# Altium schematic symbol library Relay.SchLib: 200 symbols (part 1 of 2)
Pins are listed as number, name and electrical type; pins without a type are passive.

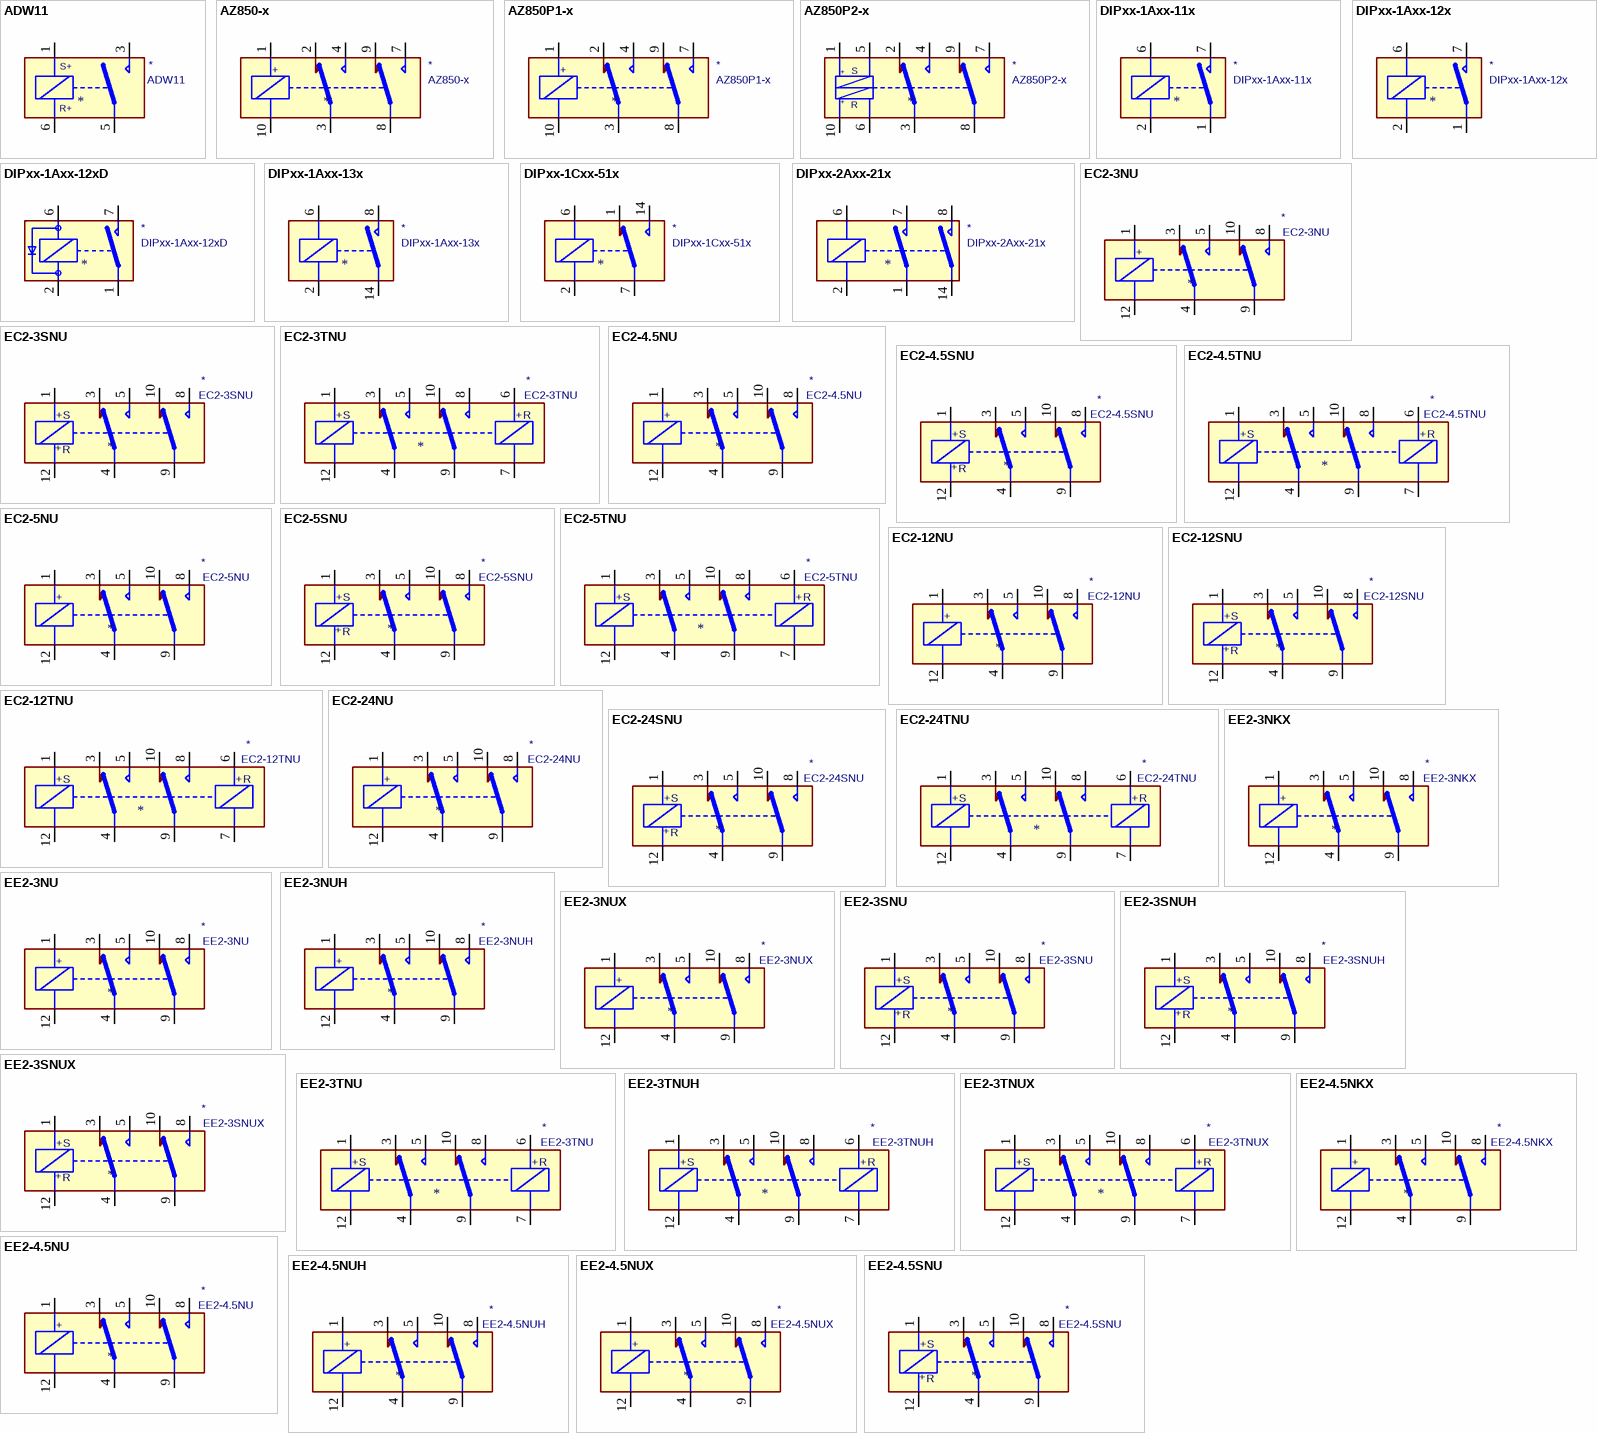
[diagram p0: symbols ADW11 to EE2-4.5SNU]

## ADW11
designator *  value ADW11
ki_keywords: SPST 1P1T; ki_description: Panasonic, 8A/16A, Small Polarized Latching Power Relays, Single coil, 1 Form A; ki_fp_filters: Relay*1P1T*NO*Panasonic*ADW11xxxxW*; Footprint: Relay_THT:Relay_1P1T_NO_10x24x18.8mm_Panasonic_ADW11xxxxW_THT; Supplier: https://www.panasonic-electric-works.com/pew/es/downloads/ds_dw_hl_en.pdf
footprint Relay_1P1T_NO_10x24x18.8mm_Panasonic_ADW11xxxxW_THT
pins: 1, 3, 5, 6
text: S+; R+

## AZ850-x
designator *  value AZ850-x
ki_keywords: Miniature Polarised Relay Dual Pole; ki_description: American Zettler, Microminiature Polarised Dual Pole Relay; ki_fp_filters: Relay*DPDT*FRT5*; Footprint: Relay_THT:Relay_DPDT_FRT5; Supplier: http://www.azettler.com/pdfs/az850.pdf
footprint Relay_DPDT_FRT5
pins: 1, 2, 3, 4, 7, 8, 9, 10
text: +

## AZ850P1-x
designator *  value AZ850P1-x
ki_keywords: Miniature Polarised Relay Dual Pole Bistable; ki_description: American Zettler, Microminiature Polarised Dual Pole Relay Bistable; ki_fp_filters: Relay*DPDT*FRT5*; Footprint: Relay_THT:Relay_DPDT_FRT5; Supplier: http://www.azettler.com/pdfs/az850.pdf
footprint Relay_DPDT_FRT5
pins: 1, 2, 3, 4, 7, 8, 9, 10
text: +

## AZ850P2-x
designator *  value AZ850P2-x
ki_keywords: Miniature Polarised Relay Dual Pole Bistable; ki_description: American Zettler, Microminiature Polarised Dual Pole Relay Bistable; ki_fp_filters: Relay*DPDT*FRT5*; Footprint: Relay_THT:Relay_DPDT_FRT5; Supplier: http://www.azettler.com/pdfs/az850.pdf
footprint Relay_DPDT_FRT5
pins: 1, 2, 3, 4, 5, 6, 7, 8, 9, 10
text: +; S; R

## DIPxx-1Axx-11x
designator *  value DIPxx-1Axx-11x
ki_keywords: Single Pole Reed Relay SPST; ki_description: Standex Meder DIP reed relay, SPST, Closing Contact; ki_fp_filters: Relay*StandexMeder*DIP*LowProfile*; Footprint: Relay_THT:Relay_StandexMeder_DIP_LowProfile; Supplier: https://standexelectronics.com/wp-content/uploads/datasheet_reed_relay_DIP.pdf
footprint Relay_StandexMeder_DIP_LowProfile
pins: 1, 2, 6, 7, 8 hidden, 14 hidden

## DIPxx-1Axx-12x
designator *  value DIPxx-1Axx-12x
ki_keywords: Single Pole Reed Relay SPST; ki_description: Standex Meder DIP reed relay, SPST, Closing Contact; ki_fp_filters: Relay*StandexMeder*DIP*LowProfile*; Footprint: Relay_THT:Relay_StandexMeder_DIP_LowProfile; Supplier: https://standexelectronics.com/wp-content/uploads/datasheet_reed_relay_DIP.pdf
footprint Relay_StandexMeder_DIP_LowProfile
pins: 1, 2, 6, 7, 8 hidden, 13 hidden, 14 hidden

## DIPxx-1Axx-12xD
designator *  value DIPxx-1Axx-12xD
ki_keywords: Single Pole Reed Relay SPST; ki_description: Standex Meder DIP reed relay, SPST, Closing Contact, including diode; ki_fp_filters: Relay*StandexMeder*DIP*LowProfile*; Footprint: Relay_THT:Relay_StandexMeder_DIP_LowProfile; Supplier: https://standexelectronics.com/wp-content/uploads/datasheet_reed_relay_DIP.pdf
footprint Relay_StandexMeder_DIP_LowProfile
pins: 1, 2, 6, 7, 8 hidden, 13 hidden, 14 hidden

## DIPxx-1Axx-13x
designator *  value DIPxx-1Axx-13x
ki_keywords: Single Pole Reed Relay SPST; ki_description: Standex Meder DIP reed relay, SPST, Closing Contact; ki_fp_filters: Relay*StandexMeder*DIP*LowProfile*; Footprint: Relay_THT:Relay_StandexMeder_DIP_LowProfile; Supplier: https://standexelectronics.com/wp-content/uploads/datasheet_reed_relay_DIP.pdf
footprint Relay_StandexMeder_DIP_LowProfile
pins: 2, 6, 8, 14

## DIPxx-1Cxx-51x
designator *  value DIPxx-1Cxx-51x
ki_keywords: Single Pole Reed Relay SPDT; ki_description: Standex Meder DIP reed relay, SPDT; ki_fp_filters: Relay*StandexMeder*DIP*LowProfile*; Footprint: Relay_THT:Relay_StandexMeder_DIP_LowProfile; Supplier: https://standexelectronics.com/wp-content/uploads/datasheet_reed_relay_DIP.pdf
footprint Relay_StandexMeder_DIP_LowProfile
pins: 1, 2, 6, 7, 8 hidden, 14

## DIPxx-2Axx-21x
designator *  value DIPxx-2Axx-21x
ki_keywords: Single Pole Reed Relay DPST; ki_description: Standex Meder DIP reed relay, DPST, Closing Contacts; ki_fp_filters: Relay*StandexMeder*DIP*LowProfile*; Footprint: Relay_THT:Relay_StandexMeder_DIP_LowProfile; Supplier: https://standexelectronics.com/wp-content/uploads/datasheet_reed_relay_DIP.pdf
footprint Relay_StandexMeder_DIP_LowProfile
pins: 1, 2, 6, 7, 8, 14

## EC2-3NU
designator *  value EC2-3NU
ki_keywords: signal relay double pole double throw DPDT DC coil non latching; ki_description: General purpose signal relay, Kemet EC2 Series, DPDT (2 Form C), non-latching, through hole, 60W/125VA, 220VDC/250VAC, 2A, 3V DC coil; ki_fp_filters: Relay*THT*Kemet*EC2*; Footprint: Relay_THT:Relay_DPDT_Kemet_EC2; Supplier: https://content.kemet.com/datasheets/KEM_R7002_EC2_EE2.pdf
footprint Relay_DPDT_Kemet_EC2
pins: 1, 3, 4, 5, 8, 9, 10, 12
text: +

## EC2-3SNU
designator *  value EC2-3SNU
ki_keywords: signal relay double pole double throw DPDT DC coil single coil latching; ki_description: General purpose signal relay, Kemet EC2 Series, DPDT (2 Form C), single coil latching, through hole, 60W/125VA, 220VDC/250VAC, 2A, 3V DC coil; ki_fp_filters: Relay*THT*Kemet*EC2*; Footprint: Relay_THT:Relay_DPDT_Kemet_EC2; Supplier: https://content.kemet.com/datasheets/KEM_R7002_EC2_EE2.pdf
footprint Relay_DPDT_Kemet_EC2
pins: 1, 3, 4, 5, 8, 9, 10, 12
text: +; S; R

## EC2-3TNU
designator *  value EC2-3TNU
ki_keywords: signal relay double pole double throw DPDT DC coil double dual coil latching; ki_description: General purpose signal relay, Kemet EC2 Series, DPDT (2 Form C), double coil latching, through hole, 60W/125VA, 220VDC/250VAC, 2A, 3V DC coil; ki_fp_filters: Relay*THT*Kemet*EC2*DoubleCoil*; Footprint: Relay_THT:Relay_DPDT_Kemet_EC2_DoubleCoil; Supplier: https://content.kemet.com/datasheets/KEM_R7002_EC2_EE2.pdf
footprint Relay_DPDT_Kemet_EC2_DoubleCoil
pins: 1, 3, 4, 5, 6, 7, 8, 9, 10, 12
text: +; S; R

## EC2-4.5NU
designator *  value EC2-4.5NU
ki_keywords: signal relay double pole double throw DPDT DC coil non latching; ki_description: General purpose signal relay, Kemet EC2 Series, DPDT (2 Form C), non-latching, through hole, 60W/125VA, 220VDC/250VAC, 2A, 4.5V DC coil; ki_fp_filters: Relay*THT*Kemet*EC2*; Footprint: Relay_THT:Relay_DPDT_Kemet_EC2; Supplier: https://content.kemet.com/datasheets/KEM_R7002_EC2_EE2.pdf
footprint Relay_DPDT_Kemet_EC2
pins: 1, 3, 4, 5, 8, 9, 10, 12
text: +

## EC2-4.5SNU
designator *  value EC2-4.5SNU
ki_keywords: signal relay double pole double throw DPDT DC coil single coil latching; ki_description: General purpose signal relay, Kemet EC2 Series, DPDT (2 Form C), single coil latching, through hole, 60W/125VA, 220VDC/250VAC, 2A, 4.5V DC coil; ki_fp_filters: Relay*THT*Kemet*EC2*; Footprint: Relay_THT:Relay_DPDT_Kemet_EC2; Supplier: https://content.kemet.com/datasheets/KEM_R7002_EC2_EE2.pdf
footprint Relay_DPDT_Kemet_EC2
pins: 1, 3, 4, 5, 8, 9, 10, 12
text: +; S; R

## EC2-4.5TNU
designator *  value EC2-4.5TNU
ki_keywords: signal relay double pole double throw DPDT DC coil double dual coil latching; ki_description: General purpose signal relay, Kemet EC2 Series, DPDT (2 Form C), double coil latching, through hole, 60W/125VA, 220VDC/250VAC, 2A, 4.5V DC coil; ki_fp_filters: Relay*THT*Kemet*EC2*DoubleCoil*; Footprint: Relay_THT:Relay_DPDT_Kemet_EC2_DoubleCoil; Supplier: https://content.kemet.com/datasheets/KEM_R7002_EC2_EE2.pdf
footprint Relay_DPDT_Kemet_EC2_DoubleCoil
pins: 1, 3, 4, 5, 6, 7, 8, 9, 10, 12
text: +; S; R

## EC2-5NU
designator *  value EC2-5NU
ki_keywords: signal relay double pole double throw DPDT DC coil non latching; ki_description: General purpose signal relay, Kemet EC2 Series, DPDT (2 Form C), non-latching, through hole, 60W/125VA, 220VDC/250VAC, 2A, 5V DC coil; ki_fp_filters: Relay*THT*Kemet*EC2*; Footprint: Relay_THT:Relay_DPDT_Kemet_EC2; Supplier: https://content.kemet.com/datasheets/KEM_R7002_EC2_EE2.pdf
footprint Relay_DPDT_Kemet_EC2
pins: 1, 3, 4, 5, 8, 9, 10, 12
text: +

## EC2-5SNU
designator *  value EC2-5SNU
ki_keywords: signal relay double pole double throw DPDT DC coil single coil latching; ki_description: General purpose signal relay, Kemet EC2 Series, DPDT (2 Form C), single coil latching, through hole, 60W/125VA, 220VDC/250VAC, 2A, 5V DC coil; ki_fp_filters: Relay*THT*Kemet*EC2*; Footprint: Relay_THT:Relay_DPDT_Kemet_EC2; Supplier: https://content.kemet.com/datasheets/KEM_R7002_EC2_EE2.pdf
footprint Relay_DPDT_Kemet_EC2
pins: 1, 3, 4, 5, 8, 9, 10, 12
text: +; S; R

## EC2-5TNU
designator *  value EC2-5TNU
ki_keywords: signal relay double pole double throw DPDT DC coil double dual coil latching; ki_description: General purpose signal relay, Kemet EC2 Series, DPDT (2 Form C), double coil latching, through hole, 60W/125VA, 220VDC/250VAC, 2A, 5V DC coil; ki_fp_filters: Relay*THT*Kemet*EC2*DoubleCoil*; Footprint: Relay_THT:Relay_DPDT_Kemet_EC2_DoubleCoil; Supplier: https://content.kemet.com/datasheets/KEM_R7002_EC2_EE2.pdf
footprint Relay_DPDT_Kemet_EC2_DoubleCoil
pins: 1, 3, 4, 5, 6, 7, 8, 9, 10, 12
text: +; S; R

## EC2-12NU
designator *  value EC2-12NU
ki_keywords: signal relay double pole double throw DPDT DC coil non latching; ki_description: General purpose signal relay, Kemet EC2 Series, DPDT (2 Form C), non-latching, through hole, 60W/125VA, 220VDC/250VAC, 2A, 12V DC coil; ki_fp_filters: Relay*THT*Kemet*EC2*; Footprint: Relay_THT:Relay_DPDT_Kemet_EC2; Supplier: https://content.kemet.com/datasheets/KEM_R7002_EC2_EE2.pdf
footprint Relay_DPDT_Kemet_EC2
pins: 1, 3, 4, 5, 8, 9, 10, 12
text: +

## EC2-12SNU
designator *  value EC2-12SNU
ki_keywords: signal relay double pole double throw DPDT DC coil single coil latching; ki_description: General purpose signal relay, Kemet EC2 Series, DPDT (2 Form C), single coil latching, through hole, 60W/125VA, 220VDC/250VAC, 2A, 12V DC coil; ki_fp_filters: Relay*THT*Kemet*EC2*; Footprint: Relay_THT:Relay_DPDT_Kemet_EC2; Supplier: https://content.kemet.com/datasheets/KEM_R7002_EC2_EE2.pdf
footprint Relay_DPDT_Kemet_EC2
pins: 1, 3, 4, 5, 8, 9, 10, 12
text: +; S; R

## EC2-12TNU
designator *  value EC2-12TNU
ki_keywords: signal relay double pole double throw DPDT DC coil double dual coil latching; ki_description: General purpose signal relay, Kemet EC2 Series, DPDT (2 Form C), double coil latching, through hole, 60W/125VA, 220VDC/250VAC, 2A, 12V DC coil; ki_fp_filters: Relay*THT*Kemet*EC2*DoubleCoil*; Footprint: Relay_THT:Relay_DPDT_Kemet_EC2_DoubleCoil; Supplier: https://content.kemet.com/datasheets/KEM_R7002_EC2_EE2.pdf
footprint Relay_DPDT_Kemet_EC2_DoubleCoil
pins: 1, 3, 4, 5, 6, 7, 8, 9, 10, 12
text: +; S; R

## EC2-24NU
designator *  value EC2-24NU
ki_keywords: signal relay double pole double throw DPDT DC coil non latching; ki_description: General purpose signal relay, Kemet EC2 Series, DPDT (2 Form C), non-latching, through hole, 60W/125VA, 220VDC/250VAC, 2A, 24V DC coil; ki_fp_filters: Relay*THT*Kemet*EC2*; Footprint: Relay_THT:Relay_DPDT_Kemet_EC2; Supplier: https://content.kemet.com/datasheets/KEM_R7002_EC2_EE2.pdf
footprint Relay_DPDT_Kemet_EC2
pins: 1, 3, 4, 5, 8, 9, 10, 12
text: +

## EC2-24SNU
designator *  value EC2-24SNU
ki_keywords: signal relay double pole double throw DPDT DC coil single coil latching; ki_description: General purpose signal relay, Kemet EC2 Series, DPDT (2 Form C), single coil latching, through hole, 60W/125VA, 220VDC/250VAC, 2A, 24V DC coil; ki_fp_filters: Relay*THT*Kemet*EC2*; Footprint: Relay_THT:Relay_DPDT_Kemet_EC2; Supplier: https://content.kemet.com/datasheets/KEM_R7002_EC2_EE2.pdf
footprint Relay_DPDT_Kemet_EC2
pins: 1, 3, 4, 5, 8, 9, 10, 12
text: +; S; R

## EC2-24TNU
designator *  value EC2-24TNU
ki_keywords: signal relay double pole double throw DPDT DC coil double dual coil latching; ki_description: General purpose signal relay, Kemet EC2 Series, DPDT (2 Form C), double coil latching, through hole, 60W/125VA, 220VDC/250VAC, 2A, 24V DC coil; ki_fp_filters: Relay*THT*Kemet*EC2*DoubleCoil*; Footprint: Relay_THT:Relay_DPDT_Kemet_EC2_DoubleCoil; Supplier: https://content.kemet.com/datasheets/KEM_R7002_EC2_EE2.pdf
footprint Relay_DPDT_Kemet_EC2_DoubleCoil
pins: 1, 3, 4, 5, 6, 7, 8, 9, 10, 12
text: +; S; R

## EE2-3NKX
designator *  value EE2-3NKX
ki_keywords: signal relay double pole double throw DPDT DC coil non latching; ki_description: General purpose signal relay, Kemet EE2 Series, DPDT (2 Form C), non-latching, high breakdown voltage, high solder joint reliability SMD, 60W/125VA, 220VDC/250VAC, 2A, 3V DC coil; ki_fp_filters: Relay*DPDT*Kemet*EE2*NKX*; Footprint: Relay_SMD:Relay_DPDT_Kemet_EE2_NUX_NKX; Supplier: https://content.kemet.com/datasheets/KEM_R7002_EC2_EE2.pdf
footprint Relay_DPDT_Kemet_EE2_NUX_NKX
pins: 1, 3, 4, 5, 8, 9, 10, 12
text: +

## EE2-3NU
designator *  value EE2-3NU
ki_keywords: signal relay double pole double throw DPDT DC coil non latching; ki_description: General purpose signal relay, Kemet EE2 Series, DPDT (2 Form C), non-latching, SMD, 60W/125VA, 220VDC/250VAC, 2A, 3V DC coil; ki_fp_filters: Relay*DPDT*Kemet*EE2*NU*; Footprint: Relay_SMD:Relay_DPDT_Kemet_EE2_NU; Supplier: https://content.kemet.com/datasheets/KEM_R7002_EC2_EE2.pdf
footprint Relay_DPDT_Kemet_EE2_NU
pins: 1, 3, 4, 5, 8, 9, 10, 12
text: +

## EE2-3NUH
designator *  value EE2-3NUH
ki_keywords: signal relay double pole double throw DPDT DC coil non latching; ki_description: General purpose signal relay, Kemet EE2 Series, DPDT (2 Form C), non-latching, small footprint SMD, 60W/125VA, 220VDC/250VAC, 2A, 3V DC coil; ki_fp_filters: Relay*DPDT*Kemet*EE2*NUH*; Footprint: Relay_SMD:Relay_DPDT_Kemet_EE2_NUH; Supplier: https://content.kemet.com/datasheets/KEM_R7002_EC2_EE2.pdf
footprint Relay_DPDT_Kemet_EE2_NUH
pins: 1, 3, 4, 5, 8, 9, 10, 12
text: +

## EE2-3NUX
designator *  value EE2-3NUX
ki_keywords: signal relay double pole double throw DPDT DC coil non latching; ki_description: General purpose signal relay, Kemet EE2 Series, DPDT (2 Form C), non-latching, high solder joint reliability SMD, 60W/125VA, 220VDC/250VAC, 2A, 3V DC coil; ki_fp_filters: Relay*DPDT*Kemet*EE2*NUX*; Footprint: Relay_SMD:Relay_DPDT_Kemet_EE2_NUX_NKX; Supplier: https://content.kemet.com/datasheets/KEM_R7002_EC2_EE2.pdf
footprint Relay_DPDT_Kemet_EE2_NUX_NKX
pins: 1, 3, 4, 5, 8, 9, 10, 12
text: +

## EE2-3SNU
designator *  value EE2-3SNU
ki_keywords: signal relay double pole double throw DPDT DC coil single coil latching; ki_description: General purpose signal relay, Kemet EE2 Series, DPDT (2 Form C), single coil latching, SMD, 60W/125VA, 220VDC/250VAC, 2A, 3V DC coil; ki_fp_filters: Relay*DPDT*Kemet*EE2*NU*; Footprint: Relay_SMD:Relay_DPDT_Kemet_EE2_NU; Supplier: https://content.kemet.com/datasheets/KEM_R7002_EC2_EE2.pdf
footprint Relay_DPDT_Kemet_EE2_NU
pins: 1, 3, 4, 5, 8, 9, 10, 12
text: +; S; R

## EE2-3SNUH
designator *  value EE2-3SNUH
ki_keywords: signal relay double pole double throw DPDT DC coil single coil latching; ki_description: General purpose signal relay, Kemet EE2 Series, DPDT (2 Form C), single coil latching, small footprint SMD, 60W/125VA, 220VDC/250VAC, 2A, 3V DC coil; ki_fp_filters: Relay*DPDT*Kemet*EE2*NUH*; Footprint: Relay_SMD:Relay_DPDT_Kemet_EE2_NUH; Supplier: https://content.kemet.com/datasheets/KEM_R7002_EC2_EE2.pdf
footprint Relay_DPDT_Kemet_EE2_NUH
pins: 1, 3, 4, 5, 8, 9, 10, 12
text: +; S; R

## EE2-3SNUX
designator *  value EE2-3SNUX
ki_keywords: signal relay double pole double throw DPDT DC coil single coil latching; ki_description: General purpose signal relay, Kemet EE2 Series, DPDT (2 Form C), single coil latching, high solder joint reliability SMD, 60W/125VA, 220VDC/250VAC, 2A, 3V DC coil; ki_fp_filters: Relay*DPDT*Kemet*EE2*NUX*; Footprint: Relay_SMD:Relay_DPDT_Kemet_EE2_NUX_NKX; Supplier: https://content.kemet.com/datasheets/KEM_R7002_EC2_EE2.pdf
footprint Relay_DPDT_Kemet_EE2_NUX_NKX
pins: 1, 3, 4, 5, 8, 9, 10, 12
text: +; S; R

## EE2-3TNU
designator *  value EE2-3TNU
ki_keywords: signal relay double pole double throw DPDT DC coil double dual coil latching; ki_description: General purpose signal relay, Kemet EE2 Series, DPDT (2 Form C), double coil latching, SMD, 60W/125VA, 220VDC/250VAC, 2A, 3V DC coil; ki_fp_filters: Relay*DPDT*Kemet*EE2*NU*DoubleCoil*; Footprint: Relay_SMD:Relay_DPDT_Kemet_EE2_NU_DoubleCoil; Supplier: https://content.kemet.com/datasheets/KEM_R7002_EC2_EE2.pdf
footprint Relay_DPDT_Kemet_EE2_NU_DoubleCoil
pins: 1, 3, 4, 5, 6, 7, 8, 9, 10, 12
text: +; S; R

## EE2-3TNUH
designator *  value EE2-3TNUH
ki_keywords: signal relay double pole double throw DPDT DC coil double dual coil latching; ki_description: General purpose signal relay, Kemet EE2 Series, DPDT (2 Form C), double coil latching, small footprint SMD, 60W/125VA, 220VDC/250VAC, 2A, 3V DC coil; ki_fp_filters: Relay*DPDT*Kemet*EE2*NUH*DoubleCoil*; Footprint: Relay_SMD:Relay_DPDT_Kemet_EE2_NUH_DoubleCoil; Supplier: https://content.kemet.com/datasheets/KEM_R7002_EC2_EE2.pdf
footprint Relay_DPDT_Kemet_EE2_NUH_DoubleCoil
pins: 1, 3, 4, 5, 6, 7, 8, 9, 10, 12
text: +; S; R

## EE2-3TNUX
designator *  value EE2-3TNUX
ki_keywords: signal relay double pole double throw DPDT DC coil double dual coil latching; ki_description: General purpose signal relay, Kemet EE2 Series, DPDT (2 Form C), double coil latching, high solder joint reliability SMD, 60W/125VA, 220VDC/250VAC, 2A, 3V DC coil; ki_fp_filters: Relay*DPDT*Kemet*EE2*NUX*DoubleCoil*; Footprint: Relay_SMD:Relay_DPDT_Kemet_EE2_NUX_DoubleCoil; Supplier: https://content.kemet.com/datasheets/KEM_R7002_EC2_EE2.pdf
footprint Relay_DPDT_Kemet_EE2_NUX_DoubleCoil
pins: 1, 3, 4, 5, 6, 7, 8, 9, 10, 12
text: +; S; R

## EE2-4.5NKX
designator *  value EE2-4.5NKX
ki_keywords: signal relay double pole double throw DPDT DC coil non latching; ki_description: General purpose signal relay, Kemet EE2 Series, DPDT (2 Form C), non-latching, high breakdown voltage, high solder joint reliability SMD, 60W/125VA, 220VDC/250VAC, 2A, 4.5V DC coil; ki_fp_filters: Relay*DPDT*Kemet*EE2*NKX*; Footprint: Relay_SMD:Relay_DPDT_Kemet_EE2_NUX_NKX; Supplier: https://content.kemet.com/datasheets/KEM_R7002_EC2_EE2.pdf
footprint Relay_DPDT_Kemet_EE2_NUX_NKX
pins: 1, 3, 4, 5, 8, 9, 10, 12
text: +

## EE2-4.5NU
designator *  value EE2-4.5NU
ki_keywords: signal relay double pole double throw DPDT DC coil non latching; ki_description: General purpose signal relay, Kemet EE2 Series, DPDT (2 Form C), non-latching, SMD, 60W/125VA, 220VDC/250VAC, 2A, 4.5V DC coil; ki_fp_filters: Relay*DPDT*Kemet*EE2*NU*; Footprint: Relay_SMD:Relay_DPDT_Kemet_EE2_NU; Supplier: https://content.kemet.com/datasheets/KEM_R7002_EC2_EE2.pdf
footprint Relay_DPDT_Kemet_EE2_NU
pins: 1, 3, 4, 5, 8, 9, 10, 12
text: +

## EE2-4.5NUH
designator *  value EE2-4.5NUH
ki_keywords: signal relay double pole double throw DPDT DC coil non latching; ki_description: General purpose signal relay, Kemet EE2 Series, DPDT (2 Form C), non-latching, small footprint SMD, 60W/125VA, 220VDC/250VAC, 2A, 4.5V DC coil; ki_fp_filters: Relay*DPDT*Kemet*EE2*NUH*; Footprint: Relay_SMD:Relay_DPDT_Kemet_EE2_NUH; Supplier: https://content.kemet.com/datasheets/KEM_R7002_EC2_EE2.pdf
footprint Relay_DPDT_Kemet_EE2_NUH
pins: 1, 3, 4, 5, 8, 9, 10, 12
text: +

## EE2-4.5NUX
designator *  value EE2-4.5NUX
ki_keywords: signal relay double pole double throw DPDT DC coil non latching; ki_description: General purpose signal relay, Kemet EE2 Series, DPDT (2 Form C), non-latching, high solder joint reliability SMD, 60W/125VA, 220VDC/250VAC, 2A, 4.5V DC coil; ki_fp_filters: Relay*DPDT*Kemet*EE2*NUX*; Footprint: Relay_SMD:Relay_DPDT_Kemet_EE2_NUX_NKX; Supplier: https://content.kemet.com/datasheets/KEM_R7002_EC2_EE2.pdf
footprint Relay_DPDT_Kemet_EE2_NUX_NKX
pins: 1, 3, 4, 5, 8, 9, 10, 12
text: +

## EE2-4.5SNU
designator *  value EE2-4.5SNU
ki_keywords: signal relay double pole double throw DPDT DC coil single coil latching; ki_description: General purpose signal relay, Kemet EE2 Series, DPDT (2 Form C), single coil latching, SMD, 60W/125VA, 220VDC/250VAC, 2A, 4.5V DC coil; ki_fp_filters: Relay*DPDT*Kemet*EE2*NU*; Footprint: Relay_SMD:Relay_DPDT_Kemet_EE2_NU; Supplier: https://content.kemet.com/datasheets/KEM_R7002_EC2_EE2.pdf
footprint Relay_DPDT_Kemet_EE2_NU
pins: 1, 3, 4, 5, 8, 9, 10, 12
text: +; S; R

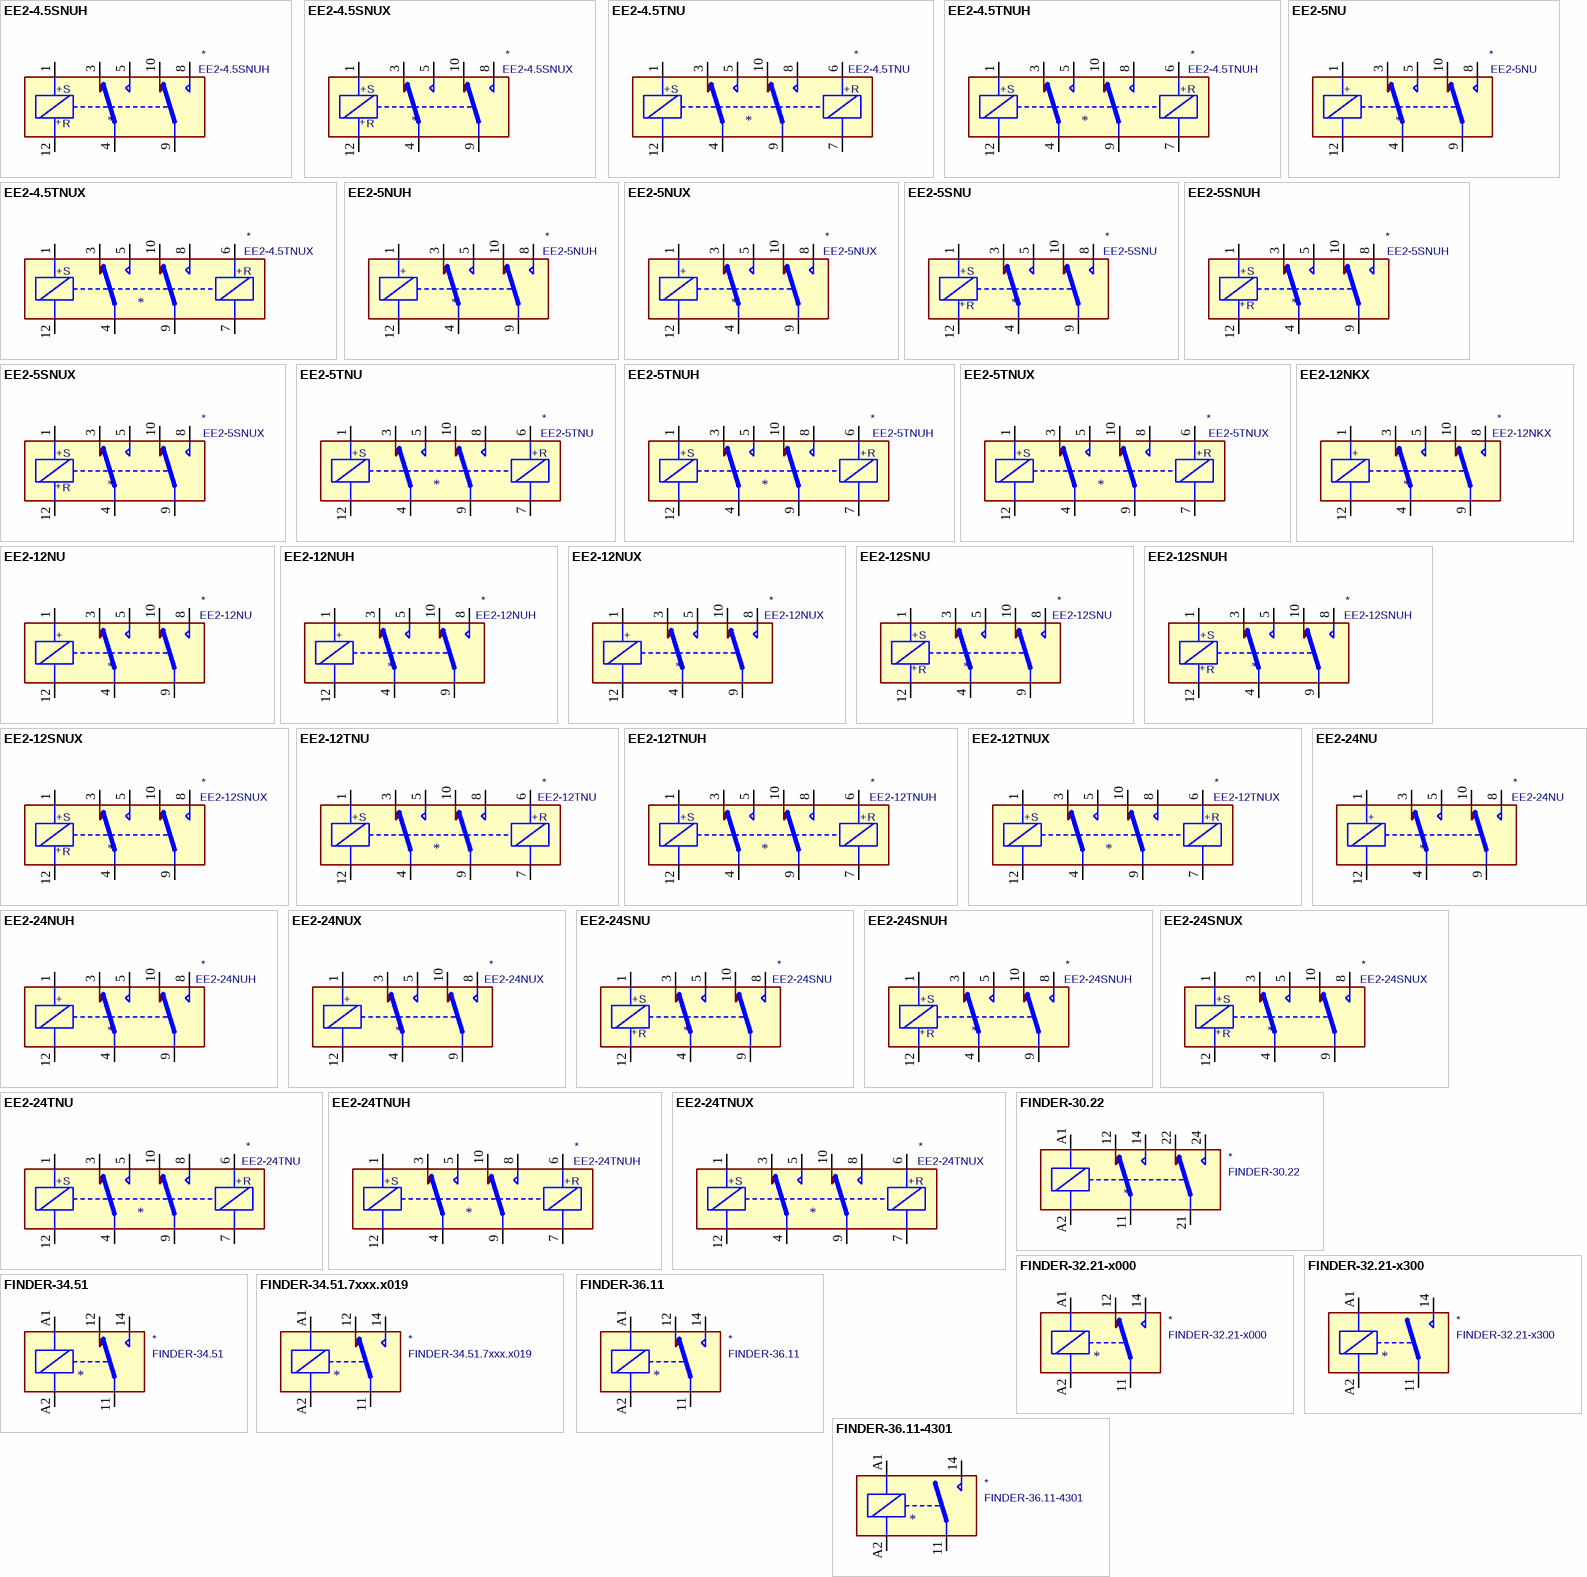
[diagram p1: symbols EE2-4.5SNUH to FINDER-36.11-4301]

## EE2-4.5SNUH
designator *  value EE2-4.5SNUH
ki_keywords: signal relay double pole double throw DPDT DC coil single coil latching; ki_description: General purpose signal relay, Kemet EE2 Series, DPDT (2 Form C), single coil latching, small footprint SMD, 60W/125VA, 220VDC/250VAC, 2A, 4.5V DC coil; ki_fp_filters: Relay*DPDT*Kemet*EE2*NUH*; Footprint: Relay_SMD:Relay_DPDT_Kemet_EE2_NUH; Supplier: https://content.kemet.com/datasheets/KEM_R7002_EC2_EE2.pdf
footprint Relay_DPDT_Kemet_EE2_NUH
pins: 1, 3, 4, 5, 8, 9, 10, 12
text: +; S; R

## EE2-4.5SNUX
designator *  value EE2-4.5SNUX
ki_keywords: signal relay double pole double throw DPDT DC coil single coil latching; ki_description: General purpose signal relay, Kemet EE2 Series, DPDT (2 Form C), single coil latching, high solder joint reliability SMD, 60W/125VA, 220VDC/250VAC, 2A, 4.5V DC coil; ki_fp_filters: Relay*DPDT*Kemet*EE2*NUX*; Footprint: Relay_SMD:Relay_DPDT_Kemet_EE2_NUX_NKX; Supplier: https://content.kemet.com/datasheets/KEM_R7002_EC2_EE2.pdf
footprint Relay_DPDT_Kemet_EE2_NUX_NKX
pins: 1, 3, 4, 5, 8, 9, 10, 12
text: +; S; R

## EE2-4.5TNU
designator *  value EE2-4.5TNU
ki_keywords: signal relay double pole double throw DPDT DC coil double dual coil latching; ki_description: General purpose signal relay, Kemet EE2 Series, DPDT (2 Form C), double coil latching, SMD, 60W/125VA, 220VDC/250VAC, 2A, 4.5V DC coil; ki_fp_filters: Relay*DPDT*Kemet*EE2*NU*DoubleCoil*; Footprint: Relay_SMD:Relay_DPDT_Kemet_EE2_NU_DoubleCoil; Supplier: https://content.kemet.com/datasheets/KEM_R7002_EC2_EE2.pdf
footprint Relay_DPDT_Kemet_EE2_NU_DoubleCoil
pins: 1, 3, 4, 5, 6, 7, 8, 9, 10, 12
text: +; S; R

## EE2-4.5TNUH
designator *  value EE2-4.5TNUH
ki_keywords: signal relay double pole double throw DPDT DC coil double dual coil latching; ki_description: General purpose signal relay, Kemet EE2 Series, DPDT (2 Form C), double coil latching, small footprint SMD, 60W/125VA, 220VDC/250VAC, 2A, 4.5V DC coil; ki_fp_filters: Relay*DPDT*Kemet*EE2*NUH*DoubleCoil*; Footprint: Relay_SMD:Relay_DPDT_Kemet_EE2_NUH_DoubleCoil; Supplier: https://content.kemet.com/datasheets/KEM_R7002_EC2_EE2.pdf
footprint Relay_DPDT_Kemet_EE2_NUH_DoubleCoil
pins: 1, 3, 4, 5, 6, 7, 8, 9, 10, 12
text: +; S; R

## EE2-4.5TNUX
designator *  value EE2-4.5TNUX
ki_keywords: signal relay double pole double throw DPDT DC coil double dual coil latching; ki_description: General purpose signal relay, Kemet EE2 Series, DPDT (2 Form C), double coil latching, high solder joint reliability SMD, 60W/125VA, 220VDC/250VAC, 2A, 4.5V DC coil; ki_fp_filters: Relay*DPDT*Kemet*EE2*NUX*DoubleCoil*; Footprint: Relay_SMD:Relay_DPDT_Kemet_EE2_NUX_DoubleCoil; Supplier: https://content.kemet.com/datasheets/KEM_R7002_EC2_EE2.pdf
footprint Relay_DPDT_Kemet_EE2_NUX_DoubleCoil
pins: 1, 3, 4, 5, 6, 7, 8, 9, 10, 12
text: +; S; R

## EE2-5NU
designator *  value EE2-5NU
ki_keywords: signal relay double pole double throw DPDT DC coil non latching; ki_description: General purpose signal relay, Kemet EE2 Series, DPDT (2 Form C), non-latching, SMD, 60W/125VA, 220VDC/250VAC, 2A, 5V DC coil; ki_fp_filters: Relay*DPDT*Kemet*EE2*NU*; Footprint: Relay_SMD:Relay_DPDT_Kemet_EE2_NU; Supplier: https://content.kemet.com/datasheets/KEM_R7002_EC2_EE2.pdf
footprint Relay_DPDT_Kemet_EE2_NU
pins: 1, 3, 4, 5, 8, 9, 10, 12
text: +

## EE2-5NUH
designator *  value EE2-5NUH
ki_keywords: signal relay double pole double throw DPDT DC coil non latching; ki_description: General purpose signal relay, Kemet EE2 Series, DPDT (2 Form C), non-latching, small footprint SMD, 60W/125VA, 220VDC/250VAC, 2A, 5V DC coil; ki_fp_filters: Relay*DPDT*Kemet*EE2*NUH*; Footprint: Relay_SMD:Relay_DPDT_Kemet_EE2_NUH; Supplier: https://content.kemet.com/datasheets/KEM_R7002_EC2_EE2.pdf
footprint Relay_DPDT_Kemet_EE2_NUH
pins: 1, 3, 4, 5, 8, 9, 10, 12
text: +

## EE2-5NUX
designator *  value EE2-5NUX
ki_keywords: signal relay double pole double throw DPDT DC coil non latching; ki_description: General purpose signal relay, Kemet EE2 Series, DPDT (2 Form C), non-latching, high solder joint reliability SMD, 60W/125VA, 220VDC/250VAC, 2A, 5V DC coil; ki_fp_filters: Relay*DPDT*Kemet*EE2*NUX*; Footprint: Relay_SMD:Relay_DPDT_Kemet_EE2_NUX_NKX; Supplier: https://content.kemet.com/datasheets/KEM_R7002_EC2_EE2.pdf
footprint Relay_DPDT_Kemet_EE2_NUX_NKX
pins: 1, 3, 4, 5, 8, 9, 10, 12
text: +

## EE2-5SNU
designator *  value EE2-5SNU
ki_keywords: signal relay double pole double throw DPDT DC coil single coil latching; ki_description: General purpose signal relay, Kemet EE2 Series, DPDT (2 Form C), single coil latching, SMD, 60W/125VA, 220VDC/250VAC, 2A, 5V DC coil; ki_fp_filters: Relay*DPDT*Kemet*EE2*NU*; Footprint: Relay_SMD:Relay_DPDT_Kemet_EE2_NU; Supplier: https://content.kemet.com/datasheets/KEM_R7002_EC2_EE2.pdf
footprint Relay_DPDT_Kemet_EE2_NU
pins: 1, 3, 4, 5, 8, 9, 10, 12
text: +; S; R

## EE2-5SNUH
designator *  value EE2-5SNUH
ki_keywords: signal relay double pole double throw DPDT DC coil single coil latching; ki_description: General purpose signal relay, Kemet EE2 Series, DPDT (2 Form C), single coil latching, small footprint SMD, 60W/125VA, 220VDC/250VAC, 2A, 5V DC coil; ki_fp_filters: Relay*DPDT*Kemet*EE2*NUH*; Footprint: Relay_SMD:Relay_DPDT_Kemet_EE2_NUH; Supplier: https://content.kemet.com/datasheets/KEM_R7002_EC2_EE2.pdf
footprint Relay_DPDT_Kemet_EE2_NUH
pins: 1, 3, 4, 5, 8, 9, 10, 12
text: +; S; R

## EE2-5SNUX
designator *  value EE2-5SNUX
ki_keywords: signal relay double pole double throw DPDT DC coil single coil latching; ki_description: General purpose signal relay, Kemet EE2 Series, DPDT (2 Form C), single coil latching, high solder joint reliability SMD, 60W/125VA, 220VDC/250VAC, 2A, 5V DC coil; ki_fp_filters: Relay*DPDT*Kemet*EE2*NUX*; Footprint: Relay_SMD:Relay_DPDT_Kemet_EE2_NUX_NKX; Supplier: https://content.kemet.com/datasheets/KEM_R7002_EC2_EE2.pdf
footprint Relay_DPDT_Kemet_EE2_NUX_NKX
pins: 1, 3, 4, 5, 8, 9, 10, 12
text: +; S; R

## EE2-5TNU
designator *  value EE2-5TNU
ki_keywords: signal relay double pole double throw DPDT DC coil double dual coil latching; ki_description: General purpose signal relay, Kemet EE2 Series, DPDT (2 Form C), double coil latching, SMD, 60W/125VA, 220VDC/250VAC, 2A, 5V DC coil; ki_fp_filters: Relay*DPDT*Kemet*EE2*NU*DoubleCoil*; Footprint: Relay_SMD:Relay_DPDT_Kemet_EE2_NU_DoubleCoil; Supplier: https://content.kemet.com/datasheets/KEM_R7002_EC2_EE2.pdf
footprint Relay_DPDT_Kemet_EE2_NU_DoubleCoil
pins: 1, 3, 4, 5, 6, 7, 8, 9, 10, 12
text: +; S; R

## EE2-5TNUH
designator *  value EE2-5TNUH
ki_keywords: signal relay double pole double throw DPDT DC coil double dual coil latching; ki_description: General purpose signal relay, Kemet EE2 Series, DPDT (2 Form C), double coil latching, small footprint SMD, 60W/125VA, 220VDC/250VAC, 2A, 5V DC coil; ki_fp_filters: Relay*DPDT*Kemet*EE2*NUH*DoubleCoil*; Footprint: Relay_SMD:Relay_DPDT_Kemet_EE2_NUH_DoubleCoil; Supplier: https://content.kemet.com/datasheets/KEM_R7002_EC2_EE2.pdf
footprint Relay_DPDT_Kemet_EE2_NUH_DoubleCoil
pins: 1, 3, 4, 5, 6, 7, 8, 9, 10, 12
text: +; S; R

## EE2-5TNUX
designator *  value EE2-5TNUX
ki_keywords: signal relay double pole double throw DPDT DC coil double dual coil latching; ki_description: General purpose signal relay, Kemet EE2 Series, DPDT (2 Form C), double coil latching, high solder joint reliability SMD, 60W/125VA, 220VDC/250VAC, 2A, 5V DC coil; ki_fp_filters: Relay*DPDT*Kemet*EE2*NUX*DoubleCoil*; Footprint: Relay_SMD:Relay_DPDT_Kemet_EE2_NUX_DoubleCoil; Supplier: https://content.kemet.com/datasheets/KEM_R7002_EC2_EE2.pdf
footprint Relay_DPDT_Kemet_EE2_NUX_DoubleCoil
pins: 1, 3, 4, 5, 6, 7, 8, 9, 10, 12
text: +; S; R

## EE2-12NKX
designator *  value EE2-12NKX
ki_keywords: signal relay double pole double throw DPDT DC coil non latching; ki_description: General purpose signal relay, Kemet EE2 Series, DPDT (2 Form C), non-latching, high breakdown voltage, high solder joint reliability SMD, 60W/125VA, 220VDC/250VAC, 2A, 12V DC coil; ki_fp_filters: Relay*DPDT*Kemet*EE2*NKX*; Footprint: Relay_SMD:Relay_DPDT_Kemet_EE2_NUX_NKX; Supplier: https://content.kemet.com/datasheets/KEM_R7002_EC2_EE2.pdf
footprint Relay_DPDT_Kemet_EE2_NUX_NKX
pins: 1, 3, 4, 5, 8, 9, 10, 12
text: +

## EE2-12NU
designator *  value EE2-12NU
ki_keywords: signal relay double pole double throw DPDT DC coil non latching; ki_description: General purpose signal relay, Kemet EE2 Series, DPDT (2 Form C), non-latching, SMD, 60W/125VA, 220VDC/250VAC, 2A, 12V DC coil; ki_fp_filters: Relay*DPDT*Kemet*EE2*NU*; Footprint: Relay_SMD:Relay_DPDT_Kemet_EE2_NU; Supplier: https://content.kemet.com/datasheets/KEM_R7002_EC2_EE2.pdf
footprint Relay_DPDT_Kemet_EE2_NU
pins: 1, 3, 4, 5, 8, 9, 10, 12
text: +

## EE2-12NUH
designator *  value EE2-12NUH
ki_keywords: signal relay double pole double throw DPDT DC coil non latching; ki_description: General purpose signal relay, Kemet EE2 Series, DPDT (2 Form C), non-latching, small footprint SMD, 60W/125VA, 220VDC/250VAC, 2A, 12V DC coil; ki_fp_filters: Relay*DPDT*Kemet*EE2*NUH*; Footprint: Relay_SMD:Relay_DPDT_Kemet_EE2_NUH; Supplier: https://content.kemet.com/datasheets/KEM_R7002_EC2_EE2.pdf
footprint Relay_DPDT_Kemet_EE2_NUH
pins: 1, 3, 4, 5, 8, 9, 10, 12
text: +

## EE2-12NUX
designator *  value EE2-12NUX
ki_keywords: signal relay double pole double throw DPDT DC coil non latching; ki_description: General purpose signal relay, Kemet EE2 Series, DPDT (2 Form C), non-latching, high solder joint reliability SMD, 60W/125VA, 220VDC/250VAC, 2A, 12V DC coil; ki_fp_filters: Relay*DPDT*Kemet*EE2*NUX*; Footprint: Relay_SMD:Relay_DPDT_Kemet_EE2_NUX_NKX; Supplier: https://content.kemet.com/datasheets/KEM_R7002_EC2_EE2.pdf
footprint Relay_DPDT_Kemet_EE2_NUX_NKX
pins: 1, 3, 4, 5, 8, 9, 10, 12
text: +

## EE2-12SNU
designator *  value EE2-12SNU
ki_keywords: signal relay double pole double throw DPDT DC coil single coil latching; ki_description: General purpose signal relay, Kemet EE2 Series, DPDT (2 Form C), single coil latching, SMD, 60W/125VA, 220VDC/250VAC, 2A, 12V DC coil; ki_fp_filters: Relay*DPDT*Kemet*EE2*NU*; Footprint: Relay_SMD:Relay_DPDT_Kemet_EE2_NU; Supplier: https://content.kemet.com/datasheets/KEM_R7002_EC2_EE2.pdf
footprint Relay_DPDT_Kemet_EE2_NU
pins: 1, 3, 4, 5, 8, 9, 10, 12
text: +; S; R

## EE2-12SNUH
designator *  value EE2-12SNUH
ki_keywords: signal relay double pole double throw DPDT DC coil single coil latching; ki_description: General purpose signal relay, Kemet EE2 Series, DPDT (2 Form C), single coil latching, small footprint SMD, 60W/125VA, 220VDC/250VAC, 2A, 12V DC coil; ki_fp_filters: Relay*DPDT*Kemet*EE2*NUH*; Footprint: Relay_SMD:Relay_DPDT_Kemet_EE2_NUH; Supplier: https://content.kemet.com/datasheets/KEM_R7002_EC2_EE2.pdf
footprint Relay_DPDT_Kemet_EE2_NUH
pins: 1, 3, 4, 5, 8, 9, 10, 12
text: +; S; R

## EE2-12SNUX
designator *  value EE2-12SNUX
ki_keywords: signal relay double pole double throw DPDT DC coil single coil latching; ki_description: General purpose signal relay, Kemet EE2 Series, DPDT (2 Form C), single coil latching, high solder joint reliability SMD, 60W/125VA, 220VDC/250VAC, 2A, 12V DC coil; ki_fp_filters: Relay*DPDT*Kemet*EE2*NUX*; Footprint: Relay_SMD:Relay_DPDT_Kemet_EE2_NUX_NKX; Supplier: https://content.kemet.com/datasheets/KEM_R7002_EC2_EE2.pdf
footprint Relay_DPDT_Kemet_EE2_NUX_NKX
pins: 1, 3, 4, 5, 8, 9, 10, 12
text: +; S; R

## EE2-12TNU
designator *  value EE2-12TNU
ki_keywords: signal relay double pole double throw DPDT DC coil double dual coil latching; ki_description: General purpose signal relay, Kemet EE2 Series, DPDT (2 Form C), double coil latching, SMD, 60W/125VA, 220VDC/250VAC, 2A, 12V DC coil; ki_fp_filters: Relay*DPDT*Kemet*EE2*NU*DoubleCoil*; Footprint: Relay_SMD:Relay_DPDT_Kemet_EE2_NU_DoubleCoil; Supplier: https://content.kemet.com/datasheets/KEM_R7002_EC2_EE2.pdf
footprint Relay_DPDT_Kemet_EE2_NU_DoubleCoil
pins: 1, 3, 4, 5, 6, 7, 8, 9, 10, 12
text: +; S; R

## EE2-12TNUH
designator *  value EE2-12TNUH
ki_keywords: signal relay double pole double throw DPDT DC coil double dual coil latching; ki_description: General purpose signal relay, Kemet EE2 Series, DPDT (2 Form C), double coil latching, small footprint SMD, 60W/125VA, 220VDC/250VAC, 2A, 12V DC coil; ki_fp_filters: Relay*DPDT*Kemet*EE2*NUH*DoubleCoil*; Footprint: Relay_SMD:Relay_DPDT_Kemet_EE2_NUH_DoubleCoil; Supplier: https://content.kemet.com/datasheets/KEM_R7002_EC2_EE2.pdf
footprint Relay_DPDT_Kemet_EE2_NUH_DoubleCoil
pins: 1, 3, 4, 5, 6, 7, 8, 9, 10, 12
text: +; S; R

## EE2-12TNUX
designator *  value EE2-12TNUX
ki_keywords: signal relay double pole double throw DPDT DC coil double dual coil latching; ki_description: General purpose signal relay, Kemet EE2 Series, DPDT (2 Form C), double coil latching, high solder joint reliability SMD, 60W/125VA, 220VDC/250VAC, 2A, 12V DC coil; ki_fp_filters: Relay*DPDT*Kemet*EE2*NUX*DoubleCoil*; Footprint: Relay_SMD:Relay_DPDT_Kemet_EE2_NUX_DoubleCoil; Supplier: https://content.kemet.com/datasheets/KEM_R7002_EC2_EE2.pdf
footprint Relay_DPDT_Kemet_EE2_NUX_DoubleCoil
pins: 1, 3, 4, 5, 6, 7, 8, 9, 10, 12
text: +; S; R

## EE2-24NU
designator *  value EE2-24NU
ki_keywords: signal relay double pole double throw DPDT DC coil non latching; ki_description: General purpose signal relay, Kemet EE2 Series, DPDT (2 Form C), non-latching, SMD, 60W/125VA, 220VDC/250VAC, 2A, 24V DC coil; ki_fp_filters: Relay*DPDT*Kemet*EE2*NU*; Footprint: Relay_SMD:Relay_DPDT_Kemet_EE2_NU; Supplier: https://content.kemet.com/datasheets/KEM_R7002_EC2_EE2.pdf
footprint Relay_DPDT_Kemet_EE2_NU
pins: 1, 3, 4, 5, 8, 9, 10, 12
text: +

## EE2-24NUH
designator *  value EE2-24NUH
ki_keywords: signal relay double pole double throw DPDT DC coil non latching; ki_description: General purpose signal relay, Kemet EE2 Series, DPDT (2 Form C), non-latching, small footprint SMD, 60W/125VA, 220VDC/250VAC, 2A, 24V DC coil; ki_fp_filters: Relay*DPDT*Kemet*EE2*NUH*; Footprint: Relay_SMD:Relay_DPDT_Kemet_EE2_NUH; Supplier: https://content.kemet.com/datasheets/KEM_R7002_EC2_EE2.pdf
footprint Relay_DPDT_Kemet_EE2_NUH
pins: 1, 3, 4, 5, 8, 9, 10, 12
text: +

## EE2-24NUX
designator *  value EE2-24NUX
ki_keywords: signal relay double pole double throw DPDT DC coil non latching; ki_description: General purpose signal relay, Kemet EE2 Series, DPDT (2 Form C), non-latching, high solder joint reliability SMD, 60W/125VA, 220VDC/250VAC, 2A, 24V DC coil; ki_fp_filters: Relay*DPDT*Kemet*EE2*NUX*; Footprint: Relay_SMD:Relay_DPDT_Kemet_EE2_NUX_NKX; Supplier: https://content.kemet.com/datasheets/KEM_R7002_EC2_EE2.pdf
footprint Relay_DPDT_Kemet_EE2_NUX_NKX
pins: 1, 3, 4, 5, 8, 9, 10, 12
text: +

## EE2-24SNU
designator *  value EE2-24SNU
ki_keywords: signal relay double pole double throw DPDT DC coil single coil latching; ki_description: General purpose signal relay, Kemet EE2 Series, DPDT (2 Form C), single coil latching, SMD, 60W/125VA, 220VDC/250VAC, 2A, 24V DC coil; ki_fp_filters: Relay*DPDT*Kemet*EE2*NU*; Footprint: Relay_SMD:Relay_DPDT_Kemet_EE2_NU; Supplier: https://content.kemet.com/datasheets/KEM_R7002_EC2_EE2.pdf
footprint Relay_DPDT_Kemet_EE2_NU
pins: 1, 3, 4, 5, 8, 9, 10, 12
text: +; S; R

## EE2-24SNUH
designator *  value EE2-24SNUH
ki_keywords: signal relay double pole double throw DPDT DC coil single coil latching; ki_description: General purpose signal relay, Kemet EE2 Series, DPDT (2 Form C), single coil latching, small footprint SMD, 60W/125VA, 220VDC/250VAC, 2A, 24V DC coil; ki_fp_filters: Relay*DPDT*Kemet*EE2*NUH*; Footprint: Relay_SMD:Relay_DPDT_Kemet_EE2_NUH; Supplier: https://content.kemet.com/datasheets/KEM_R7002_EC2_EE2.pdf
footprint Relay_DPDT_Kemet_EE2_NUH
pins: 1, 3, 4, 5, 8, 9, 10, 12
text: +; S; R

## EE2-24SNUX
designator *  value EE2-24SNUX
ki_keywords: signal relay double pole double throw DPDT DC coil single coil latching; ki_description: General purpose signal relay, Kemet EE2 Series, DPDT (2 Form C), single coil latching, high solder joint reliability SMD, 60W/125VA, 220VDC/250VAC, 2A, 24V DC coil; ki_fp_filters: Relay*DPDT*Kemet*EE2*NUX*; Footprint: Relay_SMD:Relay_DPDT_Kemet_EE2_NUX_NKX; Supplier: https://content.kemet.com/datasheets/KEM_R7002_EC2_EE2.pdf
footprint Relay_DPDT_Kemet_EE2_NUX_NKX
pins: 1, 3, 4, 5, 8, 9, 10, 12
text: +; S; R

## EE2-24TNU
designator *  value EE2-24TNU
ki_keywords: signal relay double pole double throw DPDT DC coil double dual coil latching; ki_description: General purpose signal relay, Kemet EE2 Series, DPDT (2 Form C), double coil latching, SMD, 60W/125VA, 220VDC/250VAC, 2A, 24V DC coil; ki_fp_filters: Relay*DPDT*Kemet*EE2*NU*DoubleCoil*; Footprint: Relay_SMD:Relay_DPDT_Kemet_EE2_NU_DoubleCoil; Supplier: https://content.kemet.com/datasheets/KEM_R7002_EC2_EE2.pdf
footprint Relay_DPDT_Kemet_EE2_NU_DoubleCoil
pins: 1, 3, 4, 5, 6, 7, 8, 9, 10, 12
text: +; S; R

## EE2-24TNUH
designator *  value EE2-24TNUH
ki_keywords: signal relay double pole double throw DPDT DC coil double dual coil latching; ki_description: General purpose signal relay, Kemet EE2 Series, DPDT (2 Form C), double coil latching, small footprint SMD, 60W/125VA, 220VDC/250VAC, 2A, 24V DC coil; ki_fp_filters: Relay*DPDT*Kemet*EE2*NUH*DoubleCoil*; Footprint: Relay_SMD:Relay_DPDT_Kemet_EE2_NUH_DoubleCoil; Supplier: https://content.kemet.com/datasheets/KEM_R7002_EC2_EE2.pdf
footprint Relay_DPDT_Kemet_EE2_NUH_DoubleCoil
pins: 1, 3, 4, 5, 6, 7, 8, 9, 10, 12
text: +; S; R

## EE2-24TNUX
designator *  value EE2-24TNUX
ki_keywords: signal relay double pole double throw DPDT DC coil double dual coil latching; ki_description: General purpose signal relay, Kemet EE2 Series, DPDT (2 Form C), double coil latching, high solder joint reliability SMD, 60W/125VA, 220VDC/250VAC, 2A, 24V DC coil; ki_fp_filters: Relay*DPDT*Kemet*EE2*NUX*DoubleCoil*; Footprint: Relay_SMD:Relay_DPDT_Kemet_EE2_NUX_DoubleCoil; Supplier: https://content.kemet.com/datasheets/KEM_R7002_EC2_EE2.pdf
footprint Relay_DPDT_Kemet_EE2_NUX_DoubleCoil
pins: 1, 3, 4, 5, 6, 7, 8, 9, 10, 12
text: +; S; R

## FINDER-30.22
designator *  value FINDER-30.22
ki_keywords: Dual Pole Relay; ki_description: FINDER 30.52, Dual Pole Relay, Subminiature 5mm Pitch, 2A; ki_fp_filters: Relay*DPDT*Finder*30.22*; Footprint: Relay_THT:Relay_DPDT_Finder_30.22; Supplier: http://gfinder.findernet.com/assets/Series/354/S30EN.pdf
footprint Relay_DPDT_Finder_30.22
pins: 11, 12, 14, 21, 22, 24, A1, A2

## FINDER-32.21-x000
designator *  value FINDER-32.21-x000
ki_keywords: Single Pole Relay; ki_description: FINDER 32.21-x000, Single Pole Relay, 6A; ki_fp_filters: Relay*SPDT*Finder*32.21*x000*; Footprint: Relay_THT:Relay_SPDT_Finder_32.21-x000; Supplier: https://gfinder.findernet.com/assets/Series/355/S32EN.pdf
footprint Relay_SPDT_Finder_32.21-x000
pins: 11, 12, 14, A1, A2

## FINDER-32.21-x300
designator *  value FINDER-32.21-x300
ki_keywords: Single Pole Relay SPST-NO; ki_description: FINDER 32.21-x300, Single Pole Relay SPST-NO, 6A; ki_fp_filters: Relay*SPST*Finder*32.21*x300*; Footprint: Relay_THT:Relay_SPST_Finder_32.21-x300; Supplier: http://gfinder.findernet.com/assets/Series/355/S32EN.pdf
footprint Relay_SPST_Finder_32.21-x300
pins: 11, 14, A1, A2

## FINDER-34.51
designator *  value FINDER-34.51
ki_keywords: Single Pole Relay SPDT; ki_description: Ultra-slim 1 Pole - 6A SPDT relay; ki_fp_filters: Relay*SPDT*Finder*34.51*; Footprint: Relay_THT:Relay_SPDT_Finder_34.51_Vertical; Supplier: https://gfinder.findernet.com/public/attachments/34/EN/S34USAEN.pdf
footprint Relay_SPDT_Finder_34.51_Vertical
pins: 11, 12, 14, A1, A2

## FINDER-34.51.7xxx.x019
designator *  value FINDER-34.51.7xxx.x019
ki_keywords: Single Pole Relay SPDT; ki_description: Ultra-slim 1 Pole - 6A SPDT relay; ki_fp_filters: Relay*SPDT*Finder*34.51*Horizontal*; Footprint: Relay_THT:Relay_SPDT_Finder_34.51_Horizontal; Supplier: https://gfinder.findernet.com/public/attachments/34/EN/S34USAEN.pdf
footprint Relay_SPDT_Finder_34.51_Horizontal
pins: 11, 12, 14, A1, A2

## FINDER-36.11
designator *  value FINDER-36.11
ki_keywords: spdt relay; ki_description: FINDER 36.11, SPDT relay, 10A; ki_fp_filters: Relay*SPDT*Finder*36.11*; Footprint: Relay_THT:Relay_SPDT_Finder_36.11; Supplier: https://gfinder.findernet.com/public/attachments/36/EN/S36EN.pdf
footprint Relay_SPDT_Finder_36.11
pins: 11, 12, 14, A1, A2

## FINDER-36.11-4301
designator *  value FINDER-36.11-4301
ki_keywords: Single Pole Relay SPST-NO Sugar Cube; ki_description: FINDER 36.11-4301, Single Pole Relay SPST-NO Sugar Cube, 10A; ki_fp_filters: Relay*SPST*Finder*32.21*x300*; Footprint: Relay_THT:Relay_SPST_Finder_32.21-x300; Supplier: http://gfinder.findernet.com/assets/Series/356/S36EN.pdf
footprint Relay_SPST_Finder_32.21-x300
pins: 11, 14, A1, A2

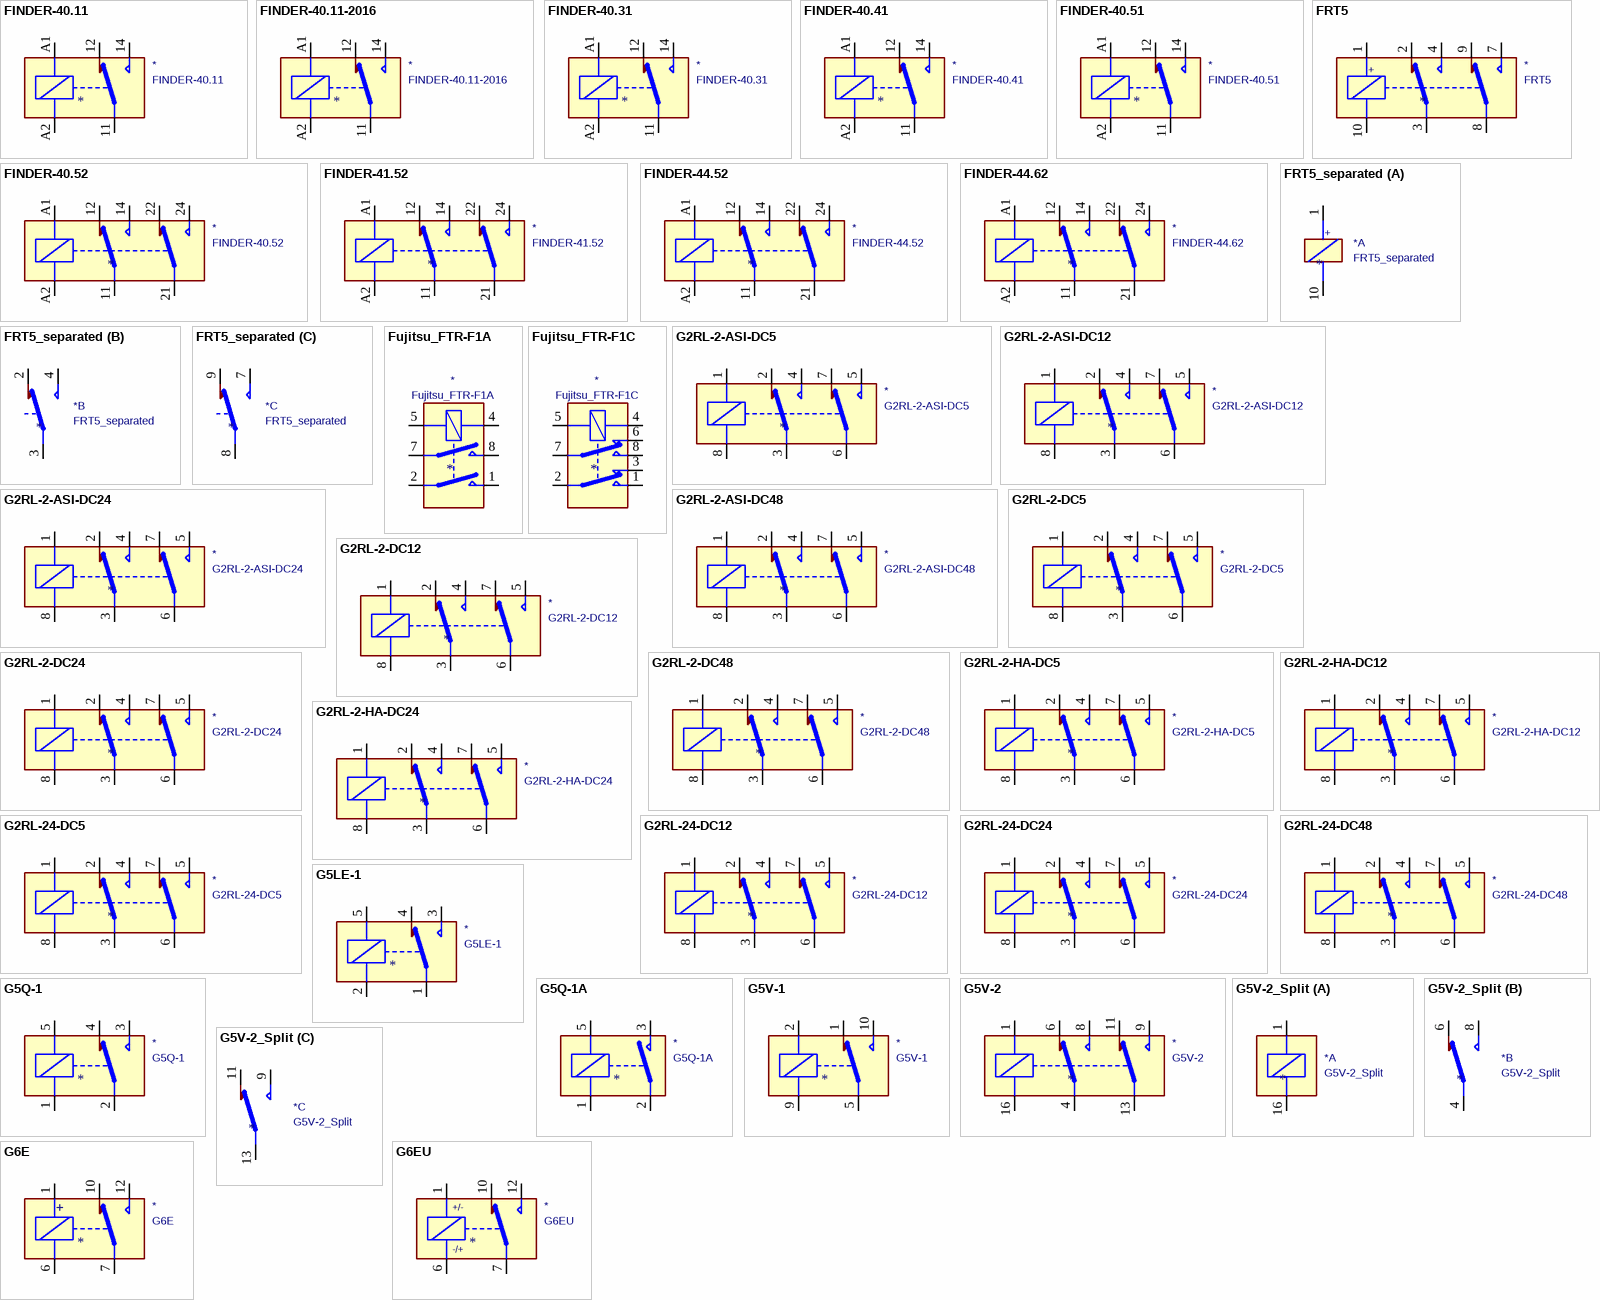
[diagram p2: symbols FINDER-40.11 to G6EU]

## FINDER-40.11
designator *  value FINDER-40.11
ki_keywords: Single Pole Relay SPDT Finder; ki_description: PCB SPDT relay, 10A; ki_fp_filters: Relay*SPDT*Finder*40.11*; Footprint: Relay_THT:Relay_SPDT_Finder_40.11; Supplier: https://www.finder-relais.net/de/finder-relais-serie-40.pdf
footprint Relay_SPDT_Finder_40.11
pins: 11, 12, 14, A1, A2

## FINDER-40.11-2016
designator *  value FINDER-40.11-2016
ki_keywords: Single Pole Relay SPDT Finder; ki_description: PCB SPDT relay, 16A; ki_fp_filters: Relay*SPDT*Finder*40.11*; Footprint: Relay_THT:Relay_SPDT_Finder_40.11; Supplier: https://www.finder-relais.net/de/finder-relais-serie-40.pdf
footprint Relay_SPDT_Finder_40.11
pins: 11, 12, 14, A1, A2

## FINDER-40.31
designator *  value FINDER-40.31
ki_keywords: Single Pole Relay; ki_description: FINDER 40.31, Single Pole Relay, 3.5mm Pitch, 10A; ki_fp_filters: Relay*SPDT*Finder*40.31*; Footprint: Relay_THT:Relay_SPDT_Finder_40.31; Supplier: http://gfinder.findernet.com/assets/Series/353/S40EN.pdf
footprint Relay_SPDT_Finder_40.31
pins: 11, 12, 14, A1, A2

## FINDER-40.41
designator *  value FINDER-40.41
ki_keywords: Single Pole Relay SPDT Finder; ki_description: PCB SPDT relay, 10A; ki_fp_filters: Relay*SPDT*Finder*40.41*; Footprint: Relay_THT:Relay_SPDT_Finder_40.41; Supplier: https://www.finder-relais.net/de/finder-relais-serie-40.pdf
footprint Relay_SPDT_Finder_40.41
pins: 11, 12, 14, A1, A2

## FINDER-40.51
designator *  value FINDER-40.51
ki_keywords: Single Pole Relay; ki_description: FINDER 40.51, Single Pole Relay, 5mm Pitch, 10A; ki_fp_filters: Relay*SPDT*Finder*40.51*; Footprint: Relay_THT:Relay_SPDT_Finder_40.51; Supplier: http://gfinder.findernet.com/assets/Series/353/S40EN.pdf
footprint Relay_SPDT_Finder_40.51
pins: 11, 12, 14, A1, A2

## FINDER-40.52
designator *  value FINDER-40.52
ki_keywords: Dual Pole Relay; ki_description: FINDER 40.52, Dual Pole Relay, 5mm Pitch, 10A; ki_fp_filters: Relay*DPDT*Finder*40.52*; Footprint: Relay_THT:Relay_DPDT_Finder_40.52; Supplier: http://gfinder.findernet.com/assets/Series/353/S40EN.pdf
footprint Relay_DPDT_Finder_40.52
pins: 11, 12, 14, 21, 22, 24, A1, A2

## FINDER-41.52
designator *  value FINDER-41.52
ki_keywords: Dual Pole Relay; ki_description: FINDER 41.52, Dual Pole Relay, 5mm Pitch, 8A; ki_fp_filters: Relay*DPDT*Finder*40.52*; Footprint: Relay_THT:Relay_DPDT_Finder_40.52; Supplier: http://gfinder.findernet.com/assets/Series/357/S41EN.pdf
footprint Relay_DPDT_Finder_40.52
pins: 11, 12, 14, 21, 22, 24, A1, A2

## FINDER-44.52
designator *  value FINDER-44.52
ki_keywords: Dual Pole Relay; ki_description: FINDER 44.52, Dual Pole Relay, 5mm Pitch, 6A; ki_fp_filters: Relay*DPDT*Finder*40.52*; Footprint: Relay_THT:Relay_DPDT_Finder_40.52; Supplier: http://gfinder.findernet.com/assets/Series/359/S44EN.pdf
footprint Relay_DPDT_Finder_40.52
pins: 11, 12, 14, 21, 22, 24, A1, A2

## FINDER-44.62
designator *  value FINDER-44.62
ki_keywords: Dual Pole Relay; ki_description: FINDER 44.62, Dual Pole Relay, 5mm Pitch, 10A; ki_fp_filters: Relay*DPDT*Finder*40.52*; Footprint: Relay_THT:Relay_DPDT_Finder_40.52; Supplier: http://gfinder.findernet.com/assets/Series/359/S44EN.pdf
footprint Relay_DPDT_Finder_40.52
pins: 11, 12, 14, 21, 22, 24, A1, A2

## FRT5
designator *  value FRT5
ki_keywords: relay monostable; ki_description: FORWARD INDUSTRIAL, Miniature Dual Pole Relay, DIP-like package; ki_fp_filters: Relay*DPDT*FRT5*; Footprint: Relay_THT:Relay_DPDT_FRT5; Supplier: https://www.elpro.org/de/index.php?controller=attachment&id_attachment=8663
footprint Relay_DPDT_FRT5
pins: 1, 2, 3, 4, 7, 8, 9, 10
text: +

## FRT5_separated
designator *  value FRT5_separated
ki_keywords: relay monostable; ki_description: FORWARD INDUSTRIAL, Miniature Dual Pole Relay, DIP-like package, separate subsymbols; ki_fp_filters: Relay*DPDT*FRT5*; Footprint: Relay_THT:Relay_DPDT_FRT5; Supplier: https://www.elpro.org/de/index.php?controller=attachment&id_attachment=8663
footprint Relay_DPDT_FRT5
part A pins: 1, 10
part B pins: 2, 3, 4
part C pins: 7, 8, 9
part A text: +

## Fujitsu_FTR-F1A
designator *  value Fujitsu_FTR-F1A
ki_keywords: double pole single throw relay; ki_description: Fujitsu Low Profile Power Relay; ki_fp_filters: *Relay*DPST*Fujitsu*FTR*F1A*; Footprint: Relay_THT:Relay_DPST_Fujitsu_FTR-F1A; Supplier: https://www.fujitsu.com/downloads/MICRO/fcai/relays/ftr-f1.pdf
footprint Relay_DPST_Fujitsu_FTR-F1A
pins: 1, 2, 4, 5, 7, 8

## Fujitsu_FTR-F1C
designator *  value Fujitsu_FTR-F1C
ki_keywords: double pole double throw relay; ki_description: Fujitsu Low Profile Power Relay; ki_fp_filters: *Relay*DPDT*Fujitsu*FTR*F1C*; Footprint: Relay_THT:Relay_DPDT_Fujitsu_FTR-F1C; Supplier: https://www.fujitsu.com/downloads/MICRO/fcai/relays/ftr-f1.pdf
footprint Relay_DPDT_Fujitsu_FTR-F1C
pins: 1, 2, 3, 4, 5, 6, 7, 8

## G2RL-2-ASI-DC5
designator *  value G2RL-2-ASI-DC5
ki_keywords: Omron Relay Dual Pole; ki_description: General Purpose Relay DPDT (2 Form C) Through Hole, Omron G2RL series, AgSnIn (large inrush current) contacts, 5V coil; ki_fp_filters: Relay*DPDT*Omron*G2RL*; Footprint: Relay_THT:Relay_DPDT_Omron_G2RL; Supplier: https://omronfs.omron.com/en_US/ecb/products/pdf/en-g2rl.pdf
footprint Relay_DPDT_Omron_G2RL
pins: 1, 2, 3, 4, 5, 6, 7, 8

## G2RL-2-ASI-DC12
designator *  value G2RL-2-ASI-DC12
ki_keywords: Omron Relay Dual Pole; ki_description: General Purpose Relay DPDT (2 Form C) Through Hole, Omron G2RL series, AgSnIn (large inrush current) contacts, 12V coil; ki_fp_filters: Relay*DPDT*Omron*G2RL*; Footprint: Relay_THT:Relay_DPDT_Omron_G2RL; Supplier: https://omronfs.omron.com/en_US/ecb/products/pdf/en-g2rl.pdf
footprint Relay_DPDT_Omron_G2RL
pins: 1, 2, 3, 4, 5, 6, 7, 8

## G2RL-2-ASI-DC24
designator *  value G2RL-2-ASI-DC24
ki_keywords: Omron Relay Dual Pole; ki_description: General Purpose Relay DPDT (2 Form C) Through Hole, Omron G2RL series, AgSnIn (large inrush current) contacts, 24V coil; ki_fp_filters: Relay*DPDT*Omron*G2RL*; Footprint: Relay_THT:Relay_DPDT_Omron_G2RL; Supplier: https://omronfs.omron.com/en_US/ecb/products/pdf/en-g2rl.pdf
footprint Relay_DPDT_Omron_G2RL
pins: 1, 2, 3, 4, 5, 6, 7, 8

## G2RL-2-ASI-DC48
designator *  value G2RL-2-ASI-DC48
ki_keywords: Omron Relay Dual Pole; ki_description: General Purpose Relay DPDT (2 Form C) Through Hole, Omron G2RL series, AgSnIn (large inrush current) contacts, 48V coil; ki_fp_filters: Relay*DPDT*Omron*G2RL*; Footprint: Relay_THT:Relay_DPDT_Omron_G2RL; Supplier: https://omronfs.omron.com/en_US/ecb/products/pdf/en-g2rl.pdf
footprint Relay_DPDT_Omron_G2RL
pins: 1, 2, 3, 4, 5, 6, 7, 8

## G2RL-2-DC5
designator *  value G2RL-2-DC5
ki_keywords: Omron Relay Dual Pole; ki_description: General Purpose Relay DPDT (2 Form C) Through Hole, Omron G2RL series, 5V coil; ki_fp_filters: Relay*DPDT*Omron*G2RL*; Footprint: Relay_THT:Relay_DPDT_Omron_G2RL; Supplier: https://omronfs.omron.com/en_US/ecb/products/pdf/en-g2rl.pdf
footprint Relay_DPDT_Omron_G2RL
pins: 1, 2, 3, 4, 5, 6, 7, 8

## G2RL-2-DC12
designator *  value G2RL-2-DC12
ki_keywords: Omron Relay Dual Pole; ki_description: General Purpose Relay DPDT (2 Form C) Through Hole, Omron G2RL series, 12V coil; ki_fp_filters: Relay*DPDT*Omron*G2RL*; Footprint: Relay_THT:Relay_DPDT_Omron_G2RL; Supplier: https://omronfs.omron.com/en_US/ecb/products/pdf/en-g2rl.pdf
footprint Relay_DPDT_Omron_G2RL
pins: 1, 2, 3, 4, 5, 6, 7, 8

## G2RL-2-DC24
designator *  value G2RL-2-DC24
ki_keywords: Omron Relay Dual Pole; ki_description: General Purpose Relay DPDT (2 Form C) Through Hole, Omron G2RL series, 24V coil; ki_fp_filters: Relay*DPDT*Omron*G2RL*; Footprint: Relay_THT:Relay_DPDT_Omron_G2RL; Supplier: https://omronfs.omron.com/en_US/ecb/products/pdf/en-g2rl.pdf
footprint Relay_DPDT_Omron_G2RL
pins: 1, 2, 3, 4, 5, 6, 7, 8

## G2RL-2-DC48
designator *  value G2RL-2-DC48
ki_keywords: Omron Relay Dual Pole; ki_description: General Purpose Relay DPDT (2 Form C) Through Hole, Omron G2RL series, 48V coil; ki_fp_filters: Relay*DPDT*Omron*G2RL*; Footprint: Relay_THT:Relay_DPDT_Omron_G2RL; Supplier: https://omronfs.omron.com/en_US/ecb/products/pdf/en-g2rl.pdf
footprint Relay_DPDT_Omron_G2RL
pins: 1, 2, 3, 4, 5, 6, 7, 8

## G2RL-2-HA-DC5
designator *  value G2RL-2-HA-DC5
ki_keywords: Omron Relay Dual Pole; ki_description: General Purpose Relay DPDT (2 Form C) Through Hole, Omron G2RL series, IEC/EN60335-1, 5V coil; ki_fp_filters: Relay*DPDT*Omron*G2RL*; Footprint: Relay_THT:Relay_DPDT_Omron_G2RL; Supplier: https://omronfs.omron.com/en_US/ecb/products/pdf/en-g2rl.pdf
footprint Relay_DPDT_Omron_G2RL
pins: 1, 2, 3, 4, 5, 6, 7, 8

## G2RL-2-HA-DC12
designator *  value G2RL-2-HA-DC12
ki_keywords: Omron Relay Dual Pole; ki_description: General Purpose Relay DPDT (2 Form C) Through Hole, Omron G2RL series, IEC/EN60335-1, 12V coil; ki_fp_filters: Relay*DPDT*Omron*G2RL*; Footprint: Relay_THT:Relay_DPDT_Omron_G2RL; Supplier: https://omronfs.omron.com/en_US/ecb/products/pdf/en-g2rl.pdf
footprint Relay_DPDT_Omron_G2RL
pins: 1, 2, 3, 4, 5, 6, 7, 8

## G2RL-2-HA-DC24
designator *  value G2RL-2-HA-DC24
ki_keywords: Omron Relay Dual Pole; ki_description: General Purpose Relay DPDT (2 Form C) Through Hole, Omron G2RL series, IEC/EN60335-1, 24V coil; ki_fp_filters: Relay*DPDT*Omron*G2RL*; Footprint: Relay_THT:Relay_DPDT_Omron_G2RL; Supplier: https://omronfs.omron.com/en_US/ecb/products/pdf/en-g2rl.pdf
footprint Relay_DPDT_Omron_G2RL
pins: 1, 2, 3, 4, 5, 6, 7, 8